# Altium footprint library SOT.PcbLib: 6 footprints
Each footprint in its own frame and in the unit in brackets; x right, y up, seen from the top. Pads: shape width x height; smd on the part's side, far side on the other; paste and mask are expansions set on the pad; w line width, h text height; cw(c..) or ccw(c..) is an arc to the next point about the centre after c.
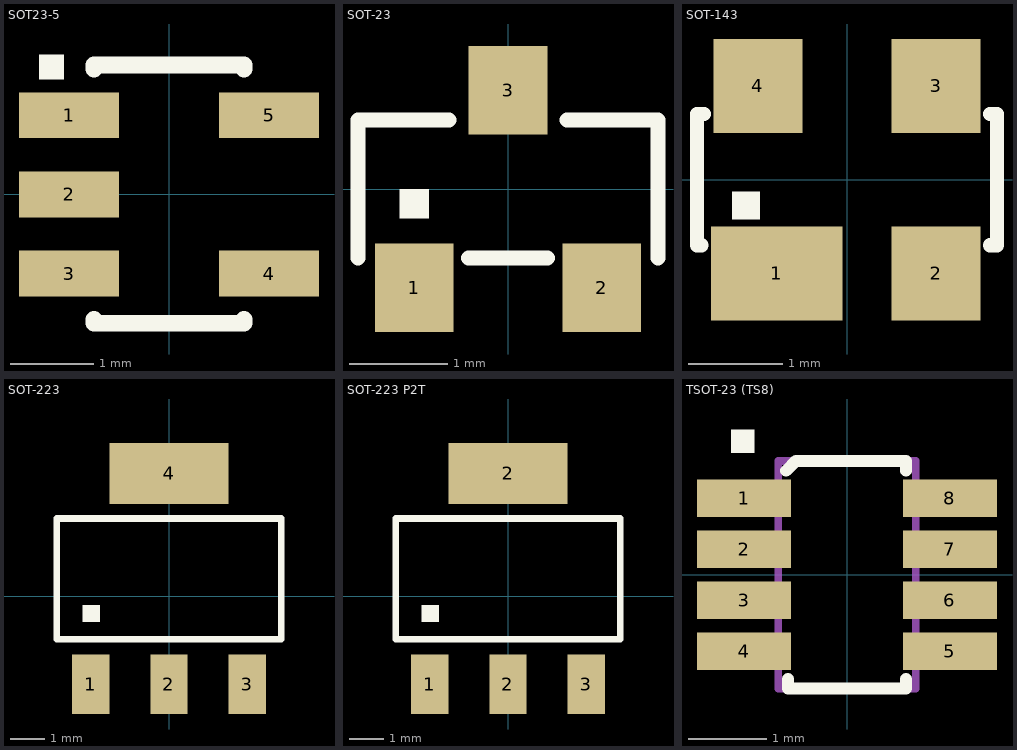
[diagram p0: the footprints below, top view; thin cyan lines are the x and y axes]

## SOT23-5 [mm] "SOT23, 5-Leads, Body 3.0x3.0mm (max), Pitch 0.95mm"
height 1.45
pads (5):
  rect 1.2x0.55 smd paste-0.01 mask+0: 1(-1.2,0.95) 2(-1.2,0) 3(-1.2,-0.95) 4(1.2,-0.95) 5(1.2,0.95)
Top Overlay:
  rectangle: -1.559,1.379 -1.259,1.679
  lines w0.2: -0.9,-1.498 -0.9,-1.548 0.9,-1.548 0.9,-1.498 ; -0.9,1.502 -0.9,1.552 0.9,1.552 0.9,1.502
3D body: height 1.09, standoff -0.01, extent -1.403,-1.45 1.397,1.45

## SOT-23 [mm] "SOT-23; 3 Leads; Body 3.0 x 2.6 mm, inc. leads (LxW max)"
height 1.1
pads (3):
  rect 0.8x0.9 smd paste-0.025 mask+0: 1(-0.95,-1) 2(0.95,-1) 3(0,1)
Top Overlay:
  rectangle: -1.1,-0.3 -0.8,0
  lines w0.152: -1.52,-0.7 -1.52,0.7 -0.6,0.7 ; -0.4,-0.7 0.4,-0.7 ; 0.6,0.7 1.52,0.7 1.52,-0.7
3D body: height 1.1, standoff 0, extent -1.5,-1.25 1.5,1.25

## SOT-143 [mm] "SOT-143; 4 Leads; Body 3 x 2.5 mm, inc. leads (LxW max)"
height 1.2
pads (4):
  rect 1.4x1 smd mask+0: 1(-0.75,-1)
  rect 0.95x1 smd mask+0: 2(0.95,-1) 3(0.95,1) 4(-0.95,1)
Top Overlay:
  rectangle: -1.227,-0.427 -0.927,-0.127
  lines w0.15: -1.55,-0.7 -1.6,-0.7 -1.6,0.7 -1.525,0.7 ; 1.525,-0.7 1.6,-0.7 1.6,0.7 1.525,0.7
3D body: height 1.08, standoff -0.02, extent -1.501,-1.25 1.499,1.25

## SOT-223 [mm] "SOT-223"
height 1.6
pads (4):
  rect 1.1x1.75 smd paste-0.05 mask+0.025: 1(-2.3,-2.592) 2(0,-2.592) 3(2.3,-2.592)
  rect 3.5x1.8 smd paste-0.05 mask+0.025: 4(0,3.608)
Top Overlay:
  rectangle: -2.54,-0.762 -2.032,-0.254
  lines w0.2: -3.302,-1.27 -3.302,2.286 3.302,2.286 3.302,-1.27 -3.302,-1.27
3D body: height 1.65, standoff -0.03, extent -3.25,-3.023 3.25,3.937

## SOT-223 P2T [mm] "SOT-223 PIN 2 => TAB"
height 1.6
pads (4):
  rect 1.1x1.75 smd paste-0.05 mask+0.025: 1(-2.3,-2.592) 2(0,-2.592) 3(2.3,-2.592)
  rect 3.5x1.8 smd paste-0.05 mask+0.025: 2(0,3.608)
Top Overlay:
  rectangle: -2.54,-0.762 -2.032,-0.254
  lines w0.2: -3.302,-1.27 -3.302,2.286 3.302,2.286 3.302,-1.27 -3.302,-1.27
3D body: height 1.65, standoff -0.03, extent -3.25,-3.023 3.25,3.937

## TSOT-23 (TS8) [mm] "Linear TS8 8-Lead TSOT-23 (Based on LTC2950)"
height 1
pads (8):
  rect 1.2x0.48 smd mask+0.025: 1(-1.31,0.975) 2(-1.31,0.325) 3(-1.31,-0.325) 4(-1.31,-0.975) 5(1.31,-0.975) 6(1.31,-0.325) 7(1.31,0.325) 8(1.31,0.975)
Top Overlay:
  rectangle: -1.475,1.55 -1.175,1.85
  lines w0.152: -0.775,1.325 -0.65,1.45 0.75,1.45 0.75,1.325 ; -0.75,-1.325 -0.75,-1.45 0.75,-1.45 0.75,-1.325
Mechanical 13:
  lines w0.1: -0.875,-1.45 -0.875,1.45 0.875,1.45 0.875,-1.45 -0.875,-1.45
3D body: height 1, standoff 0.01, extent -0.875,-1.45 0.875,1.45